# EAGLE library part ZPA2326 (library barometer-murata)
Capacitive MEMS Absolute Pressure Sensor having an I2C data exchange interface
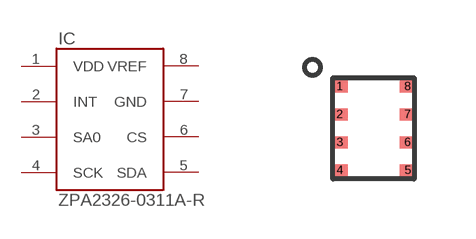
[diagram p0: symbol with the pads of 2326; footprint 2326]

Designator prefix IC

## ZPA2326-0311A-R  [2326]
1  VDD  pwr
2  INT  out
3  SA0  in
4  SCK
5  SDA
6  CS  in
7  GND  pwr
8  VREF  pwr

## Footprint 2326 (pad centres in mm)
Small-size Surface-mount Package Murata Manufacturing Company Ltd.
smd 0.4 x 0.3: 1 -0.85,1.05; 2 -0.85,0.35; 3 -0.85,-0.35; 4 -0.85,-1.05; 5 0.85,-1.05; 6 0.85,-0.35; 7 0.85,0.35; 8 0.85,1.05